# EAGLE library part AVR-ATMEGA168-TQP32 (library tidyeagle)
Atmel 8-bit Microcontroller in TQFP32 package. Datasheet: Summary <http://www.atmel.com/dyn/resources/prod_documents/8271S.pdf>, Full <http://www.atmel.com/dyn/resources/prod_documents/doc8271.pdf> Application Notes: AVR042 - Hardware Design Considerations <http://atmel.com/dyn/resources/prod_documents/doc2521.pdf> Supports the following chips - ATmega48PA ATmega88PA ATmega168PA ATmega328P With Arduino pin labelling.
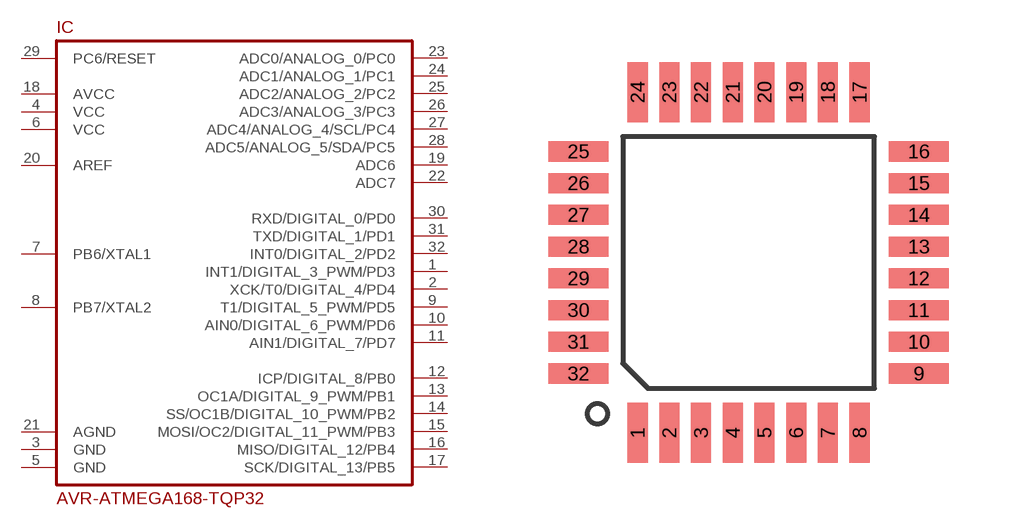
[diagram p4: symbol with the pads of QFP32; footprint QFP32]

Designator prefix IC

## AVR-ATMEGA168-TQP32  [QFP32]
1  INT1/DIGITAL_3_PWM/PD3
2  XCK/T0/DIGITAL_4/PD4
3  GND  pwr
4  VCC  pwr
5  GND  pwr
6  VCC  pwr
7  PB6/XTAL1
8  PB7/XTAL2
9  T1/DIGITAL_5_PWM/PD5
10  AIN0/DIGITAL_6_PWM/PD6
11  AIN1/DIGITAL_7/PD7
12  ICP/DIGITAL_8/PB0
13  OC1A/DIGITAL_9_PWM/PB1
14  SS/OC1B/DIGITAL_10_PWM/PB2
15  MOSI/OC2/DIGITAL_11_PWM/PB3
16  MISO/DIGITAL_12/PB4
17  SCK/DIGITAL_13/PB5
18  AVCC  pwr
19  ADC6
20  AREF
21  AGND  pwr
22  ADC7
23  ADC0/ANALOG_0/PC0
24  ADC1/ANALOG_1/PC1
25  ADC2/ANALOG_2/PC2
26  ADC3/ANALOG_3/PC3
27  ADC4/ANALOG_4/SCL/PC4
28  ADC5/ANALOG_5/SDA/PC5
29  PC6/RESET
30  RXD/DIGITAL_0/PD0
31  TXD/DIGITAL_1/PD1
32  INT0/DIGITAL_2/PD2

## Footprint QFP32 (pad centres in mm)
Not Tested.
smd 0.508 x 1.524: 1 -2.8,-4.293; 2 -2,-4.293; 3 -1.2,-4.293; 4 -0.4,-4.293; 5 0.4,-4.293; 6 1.2,-4.293; 7 2,-4.293; 8 2.8,-4.293; 17 2.8,4.293; 18 2,4.293; 19 1.2,4.293; 20 0.4,4.293; 21 -0.4,4.293; 22 -1.2,4.293; 23 -2,4.293; 24 -2.8,4.293
smd 1.524 x 0.508: 9 4.293,-2.8; 10 4.293,-2; 11 4.293,-1.2; 12 4.293,-0.4; 13 4.293,0.4; 14 4.293,1.2; 15 4.293,2; 16 4.293,2.8; 25 -4.293,2.8; 26 -4.293,2; 27 -4.293,1.2; 28 -4.293,0.4; 29 -4.293,-0.4; 30 -4.293,-1.2; 31 -4.293,-2; 32 -4.293,-2.8